# Altium schematic symbol library LTST-C191KRKT.SchLib: 1 symbol
Pins are listed as number, name and electrical type; pins without a type are passive.

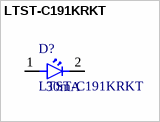
[diagram p0: symbol LTST-C191KRKT]

## LTST-C191KRKT
designator D?  Max Current: 30mA
LED RED CLEAR SMD; MFR: Lite-On Inc.; Max Temp: 85C; Min Temp: -55C; Forward Voltage: 2V; PN: LTST-C191KRKT; Color: RED; Package: LTST-C19X; Footprint: LTST-C19X; Supplier 1: Digi-Key; Supplier Part Number 1: 160-1447-1-ND; ComponentLink1Description: Datasheet; ComponentLink1URL: https://optoelectronics.liteon.com/upload/download/DS22-2000-223/LTST-C191KRKT.PDF
footprint LTST-C19X
pins: 1, 2